# EAGLE library part IC74HC573 (library chuong)
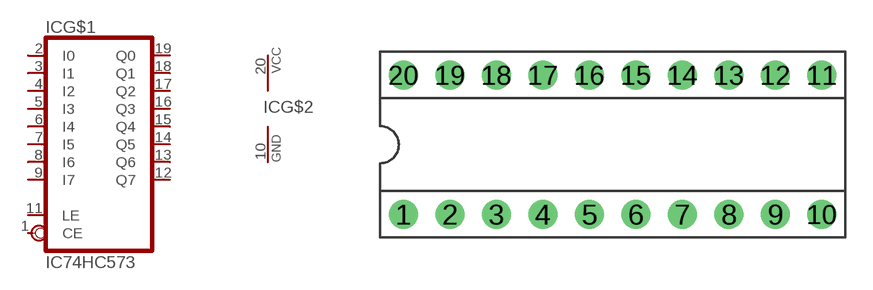
[diagram p11: symbol with the pads of DIP-20\; footprint DIP-20\]

Designator prefix IC; gates G$1=IC74HC57 G$2=POWER

## IC74HC573  [DIP-20\]
1  G$1:CE  in
2  G$1:I0  in
3  G$1:I1  in
4  G$1:I2  in
5  G$1:I3  in
6  G$1:I4  in
7  G$1:I5  in
8  G$1:I6  in
9  G$1:I7  in
10  G$2:GND  pwr
11  G$1:LE  in
12  G$1:Q7  hiz
13  G$1:Q6  hiz
14  G$1:Q5  hiz
15  G$1:Q4  hiz
16  G$1:Q3  hiz
17  G$1:Q2  hiz
18  G$1:Q1  hiz
19  G$1:Q0  hiz
20  G$2:VCC  pwr

## Footprint DIP-20\ (pad centres in mm)
drill 0.61 pad 1.6 round: 1 -11.43,-3.81; 2 -8.89,-3.81; 3 -6.35,-3.81; 4 -3.81,-3.81; 5 -1.27,-3.81; 6 1.27,-3.81; 7 3.81,-3.81; 8 6.35,-3.81; 9 8.89,-3.81; 10 11.43,-3.81; 11 11.43,3.81; 12 8.89,3.81; 13 6.35,3.81; 14 3.81,3.81; 15 1.27,3.81; 16 -1.27,3.81; 17 -3.81,3.81; 18 -6.35,3.81; 19 -8.89,3.81; 20 -11.43,3.81